# Altium footprint library part-lib.PcbLib: 14 footprints
Each footprint in its own frame and in the unit in brackets; x right, y up, seen from the top. Pads: shape width x height; smd on the part's side, far side on the other; paste and mask are expansions set on the pad; w line width, h text height; cw(c..) or ccw(c..) is an arc to the next point about the centre after c.
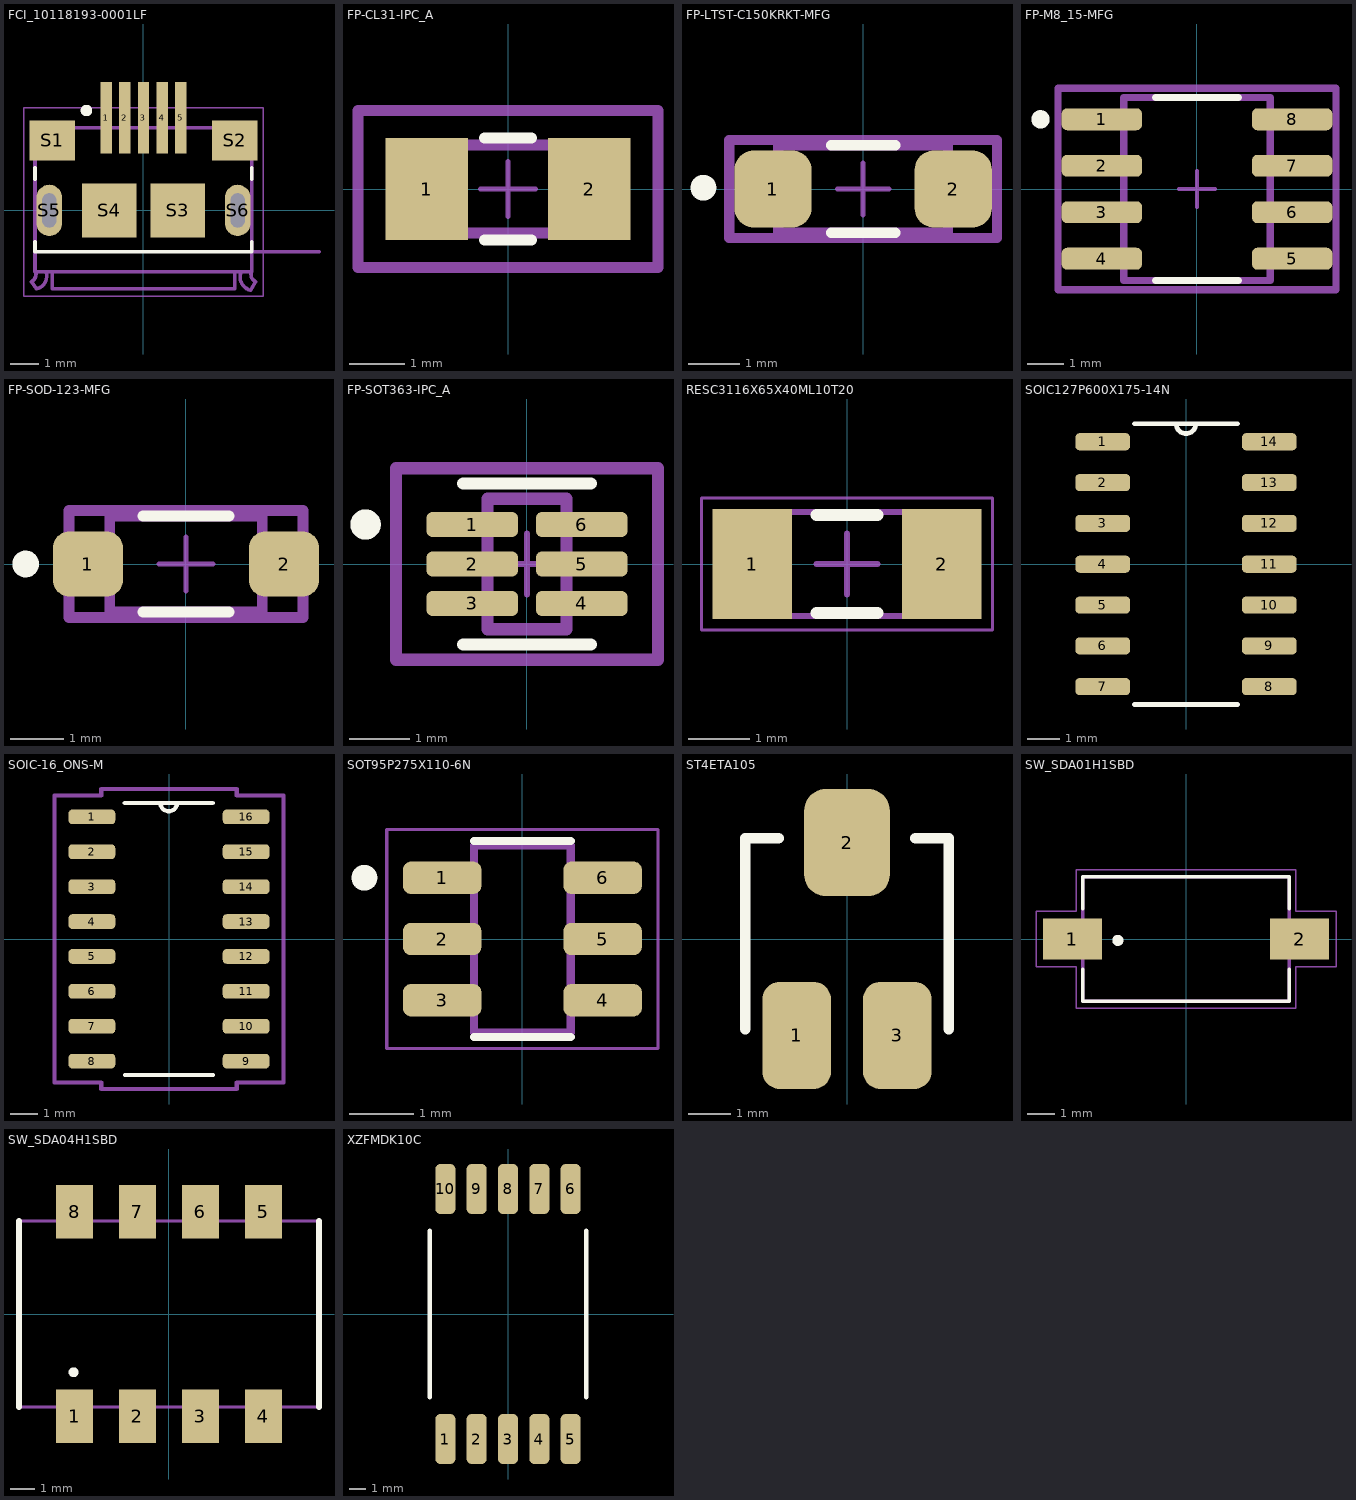
[diagram p0: the footprints below, top view; thin cyan lines are the x and y axes]

## FCI_10118193-0001LF [mm]
pads (11):
  rect 0.4x2.5 smd mask+0.05: 1(-1.3,3.25) 2(-0.65,3.25) 3(0,3.25) 4(0.65,3.25) 5(1.3,3.25)
  rect 1.6x1.4 smd: S1(-3.2,2.45) S2(3.2,2.45)
  rect 1.9x1.9 smd: S3(1.2,0) S4(-1.2,0)
  oval 0.9x1.8 hole 0.5 slot 1.2 at 90 deg: S5(-3.3,0) S6(3.3,0)
Top Overlay:
  circle w0.2: c-2,3.5 r0.1
  lines w0.127: -3.8,-1.45 3.8,-1.45 ; -3.8,-1.4 -3.8,-1.1 ; -3.8,1.1 -3.8,1.5 ; 3.8,-1.4 3.8,-1.1 ; 3.8,1.1 3.8,1.5
Mechanical 13:
  lines w0.127: -3.93,-2.5 -3.75,-2.75 ; -3.93,-2.5 ccw(c-4.065,-2.235) -3.8,-2.1 ; -3.746,-2.749 ccw(c-3.85,-2.3) -3.401,-2.196 ; -3.2,-2.2 -3.2,-2.75 3.2,-2.75 3.2,-2.2 ; 3.401,-2.198 ccw(c3.875,-2.325) 3.748,-2.799 ; 3.75,-2.8 3.93,-2.5 ; 3.8,-2.1 ccw(c4.065,-2.235) 3.93,-2.5 ; 6.15,-1.45 3.8,-1.45 ; -3.8,-2.1 -3.8,-2.15 3.8,-2.15 3.8,-1.45 ; -3.8,-2.1 -3.8,2.9 3.8,2.9 3.8,-1.45
  text "PCB END" at 4.75,-1.3 h0.41
Mechanical 15:
  lines w0.05: -4.2,-3 -4.2,3.6 4.2,3.6 4.2,-3 -4.2,-3
3D body "10118193-0001LF.step": height 2.82, standoff -0.79, extent -3.928,-2.75 3.928,2.911

## FP-CL31-IPC_A [mm]
pads (2):
  rect 1.505x1.858 smd paste+0: 1(-1.476,0) 2(1.476,0)
Top Overlay:
  lines w0.2: -0.424,-0.929 0.424,-0.929 ; -0.424,0.929 0.424,0.929
Top 3D Body:
  lines w0.2: -1.6,-0.8 -1.6,0.8 1.6,0.8 1.6,-0.8 -1.6,-0.8
Top Courtyard:
  lines w0.2: -2.729,-1.429 -2.729,1.429 2.729,1.429 2.729,-1.429 -2.729,-1.429
Top Assembly:
  lines w0.2: -2.729,-1.429 -2.729,1.429 2.729,1.429 2.729,-1.429 -2.729,-1.429
  text ".Designator" at 0,0.188 h1
Top Component Center:
  lines w0.1: -0.5,0 0.5,0 ; 0,-0.5 0,0.5
3D body "Cap_Samsung_CL31B105KOFNNNE_eec.STEP": height 0.25, standoff 0, extent -2.729,-1.429 2.729,1.429

## FP-LTST-C150KRKT-MFG [mm]
pads (2):
  rrect50% 1.5x1.5 smd paste+0: 1(-1.75,0) 2(1.75,0)
Top Overlay:
  circle w0.25: c-3.1,0.025 r0.125
  lines w0.2: -0.625,-0.85 0.625,-0.85 ; -0.625,0.85 0.625,0.85
Top 3D Body:
  lines w0.2: -1.65,-0.85 -1.65,0.85 1.65,0.85 1.65,-0.85 -1.65,-0.85
Top Courtyard:
  lines w0.2: -2.6,-0.95 -2.6,0.95 2.6,0.95 2.6,-0.95 -2.6,-0.95
Top Assembly:
  lines w0.2: -2.6,-0.95 -2.6,0.95 2.6,0.95 2.6,-0.95 -2.6,-0.95
  text ".Designator" at 0,-0.001 h1
Top Component Center:
  lines w0.1: -0.5,0 0.5,0 ; 0,-0.5 0,0.5
3D body "Diode_Lite-On_LTST-C150KRKT_eec.STEP": height 0.25, standoff 0, extent -2.6,-0.95 2.6,0.95

## FP-M8_15-MFG [mm]
pads (8):
  rrect50% 2.2x0.6 smd paste+0: 1(-2.6,1.905) 2(-2.6,0.635) 3(-2.6,-0.635) 4(-2.6,-1.905) 5(2.6,-1.905) 6(2.6,-0.635) 7(2.6,0.635) 8(2.6,1.905)
Top Overlay:
  circle w0.25: c-4.275,1.905 r0.125
  lines w0.2: -1.125,-2.5 1.125,-2.5 ; -1.125,2.5 1.125,2.5
Top 3D Body:
  lines w0.2: -2,-2.5 2,-2.5 2,2.5 -2,2.5 -2,-2.5
Top Courtyard:
  lines w0.2: -3.8,-2.75 3.8,-2.75 3.8,2.75 -3.8,2.75 -3.8,-2.75
Top Assembly:
  lines w0.2: -3.8,-2.75 3.8,-2.75 3.8,2.75 -3.8,2.75 -3.8,-2.75
  text ".Designator" at 0,0.188 h1
Top Component Center:
  lines w0.1: -0.5,0 0.5,0 ; 0,-0.5 0,0.5
3D body "IC_Renesas_ICM7555CBAZ-T_eec.STEP": height 0.25, standoff 0, extent -3.8,-2.75 3.8,2.75

## FP-SOD-123-MFG [mm]
pads (2):
  rrect50% 1.31x1.22 smd paste+0: 1(-1.835,0) 2(1.835,0)
Top Overlay:
  circle w0.25: c-3,0 r0.125
  lines w0.2: -0.805,-0.9 0.805,-0.9 ; -0.805,0.9 0.805,0.9
Top 3D Body:
  lines w0.2: -1.425,-0.9 1.425,-0.9 1.425,0.9 -1.425,0.9 -1.425,-0.9
Top Courtyard:
  lines w0.2: -2.19,-1 2.19,-1 2.19,1 -2.19,1 -2.19,-1
Top Assembly:
  lines w0.2: -2.19,-1 2.19,-1 2.19,1 -2.19,1 -2.19,-1
  text ".Designator" at 0,-0.001 h1
Top Component Center:
  lines w0.1: -0.5,0 0.5,0 ; 0,-0.5 0,0.5
3D body "Diode_MCC_MBR0540-TP_eec.STEP": height 0.25, standoff 0, extent -2.19,-1 2.19,1

## FP-SOT363-IPC_A [mm]
pads (6):
  rrect50% 1.51x0.412 smd paste+0: 1(-0.901,0.65) 2(-0.901,0) 3(-0.901,-0.65) 4(0.901,-0.65) 5(0.901,0) 6(0.901,0.65)
Top Overlay:
  circle w0.25: c-2.656,0.65 r0.125
  lines w0.2: -1.05,-1.325 1.05,-1.325 ; -1.05,1.325 1.05,1.325
Top 3D Body:
  lines w0.2: -0.65,-1.075 -0.65,1.075 0.65,1.075 0.65,-1.075 -0.65,-1.075
Top Courtyard:
  lines w0.2: -2.156,-1.575 -2.156,1.575 2.156,1.575 2.156,-1.575 -2.156,-1.575
Top Assembly:
  lines w0.2: -2.156,-1.575 -2.156,1.575 2.156,1.575 2.156,-1.575 -2.156,-1.575
  text ".Designator" at 0,0.188 h1
Top Component Center:
  lines w0.1: -0.5,0 0.5,0 ; 0,-0.5 0,0.5
3D body "Trans_Diodes_BSS8402DW-7-F_eec.STEP": height 0.25, standoff 0, extent -2.156,-1.575 2.156,1.575

## RESC3116X65X40ML10T20 [mm] "Chip Resistor, 2-Leads, Body 3.10x1.60mm, IPC Low Density"
height 0.65
pads (2):
  rect 1.3x1.8 smd: 1(-1.55,0) 2(1.55,0)
Top Overlay:
  lines w0.2: -0.5,-0.8 0.5,-0.8 ; -0.5,0.8 0.5,0.8
Mechanical 13:
  lines w0.1: -1.6,-0.85 1.6,-0.85 1.6,0.85 -1.6,0.85 -1.6,-0.85
Mechanical 15:
  lines w0.05: -2.375,-1.075 2.375,-1.075 2.375,1.075 -2.375,1.075 -2.375,-1.075
  lines w0.1: -0.5,0 0.5,0 ; 0,-0.5 0,0.5
3D body: height 0.65, standoff 0, extent 1.2,-0.85 1.6,0.85
3D body: height 0.65, standoff 0, extent -1.6,-0.85 -1.2,0.85
3D body: height 0.65, standoff 0, extent -1.2,-0.85 1.2,0.85

## SOIC127P600X175-14N [mil]
pads (14):
  rrect50% 67x21 smd: 1(-102,150) 2(-102,100) 3(-102,50) 4(-102,0) 5(-102,-50) 6(-102,-100) 7(-102,-150) 8(102,-150) 9(102,-100) 10(102,-50) 11(102,0) 12(102,50) 13(102,100) 14(102,150)
Top Overlay:
  lines w6: -63,-172 63,-172 ; -63,172 -12,172 ; 63,172 12,172 ; -12,172 ccw(c0,172) 12,172 ; -12,172 12,172
3D body "74HC86D,653.STEP": height 68.9, standoff 0, extent -118.11,-170.28 118.11,170.28

## SOIC-16_ONS-M [mil]
pads (16):
  rrect50% 67x21 smd: 1(-110.5,175)
  rrect50% 67x21 smd paste+0: 2(-110.5,125) 3(-110.5,75) 4(-110.5,25) 5(-110.5,-25) 6(-110.5,-75) 7(-110.5,-125) 8(-110.5,-175) 9(110.5,-175) 10(110.5,-125) 11(110.5,-75) 12(110.5,-25) 13(110.5,25) 14(110.5,75) 15(110.5,125) 16(110.5,175)
Top Overlay:
  lines w6: -63.36,195.03 -12.36,195.03 ; -62.99,-194.88 63.01,-194.88 ; 62.64,195.03 11.64,195.03 ; -12.36,195.03 ccw(c-0.36,195.03) 11.64,195.03 ; -12.36,195.03 11.64,195.03
Mechanical 15:
  lines w6: -164,-205.5 -97,-205.5 -97,-215 97,-215 97,-205.5 164,-205.5 164,205.5 97,205.5 97,215 -97,215 -97,205.5 -164,205.5 -164,-205.5
3D body "SOIC-16_ONS.step": height 69.09, standoff 0, extent -122.01,-195 122.01,195

## SOT95P275X110-6N [mm]
pads (6):
  rrect50% 1.22x0.5 smd: 1(-1.245,0.95) 2(-1.245,0) 3(-1.245,-0.95) 4(1.245,-0.95) 5(1.245,0) 6(1.245,0.95)
Top Overlay:
  circle w0.2: c-2.45,0.95 r0.1
  lines w0.127: -0.75,-1.52 0.75,-1.52 ; -0.75,1.52 0.75,1.52
Mechanical 13:
  lines w0.127: -0.75,-1.45 0.75,-1.45 0.75,1.45 -0.75,1.45 -0.75,-1.45
Mechanical 15:
  lines w0.05: -2.105,-1.7 2.105,-1.7 2.105,1.7 -2.105,1.7 -2.105,-1.7
3D body "74LVC2G04GV,125.step": height 1.1, standoff 0, extent -1.375,-1.45 1.375,1.45

## ST4ETA105 [mm]
pads (3):
  rrect50% 1.6x2.5 smd: 1(-1.175,-2.25) 3(1.175,-2.25)
  rrect50% 2x2.5 smd: 2(0,2.25)
Top Overlay:
  lines w0.254: -2.375,-2.1 -2.375,2.35 -1.6,2.35 ; 1.6,2.35 2.375,2.35 2.375,-2.1
3D body "ST-4ETA1M_(105).stp": height 2.3, standoff 0, extent -2.5,-2.6 2.5,2.6

## SW_SDA01H1SBD [mm]
pads (2):
  rect 2.15x1.5 smd: 1(-4.125,0) 2(4.125,0)
Top Overlay:
  circle w0.2: c-2.475,-0.05 r0.1
  lines w0.127: -3.745,-1.1 -3.745,-2.26 3.745,-2.26 3.745,-1.1 ; -3.745,1.1 -3.745,2.26 3.745,2.26 3.745,1.1
Mechanical 13:
  lines w0.127: -3.745,-2.26 3.745,-2.26 3.745,2.26 -3.745,2.26 -3.745,-2.26
Mechanical 15:
  lines w0.05: -5.45,-1 -3.995,-1 -3.995,-2.51 3.995,-2.51 3.995,-1 5.45,-1 5.45,1 3.995,1 3.995,2.51 -3.995,2.51 -3.995,1 -5.45,1 -5.45,-1
3D body "step_temp.STEP": height 5.44, standoff 0, extent -4.648,-2.261 4.648,2.261

## SW_SDA04H1SBD [mm]
pads (8):
  rect 1.5x2.15 smd: 1(-3.81,-4.124) 2(-1.27,-4.124) 3(1.27,-4.124) 4(3.81,-4.124) 5(3.81,4.126) 6(1.27,4.126) 7(-1.27,4.126) 8(-3.81,4.126)
Top Overlay:
  circle w0.2: c-3.85,-2.35 r0.1
  lines w0.254: -6.05,-3.75 -6.05,3.75 ; 6.05,-3.75 6.05,3.75
Mechanical 13:
  lines w0.127: -6.049,-3.745 6.051,-3.745 6.051,3.745 -6.049,3.745 -6.049,-3.745
3D body "SDA04H1SBD.stp": height 5.5, standoff 0, extent -6.049,-4.65 6.041,4.65

## XZFMDK10C [mm]
pads (10):
  rrect50% 1.2x3 smd: 1(-3.76,-7.5) 2(-1.88,-7.5) 3(0,-7.5) 4(1.88,-7.5) 5(3.76,-7.5) 6(3.76,7.5) 7(1.88,7.5) 8(0,7.5) 9(-1.88,7.5) 10(-3.76,7.5)
Top Overlay:
  lines w0.254: -4.7,-5 -4.7,5 ; 4.7,-5 4.7,5
3D body "XZFxx10x.step": height 3.8, standoff 0, extent -4.55,-7.5 4.55,7.5